# Altium schematic symbol library RC_Lib.SchLib: 89 symbols
Pins are listed as number, name and electrical type; pins without a type are passive.

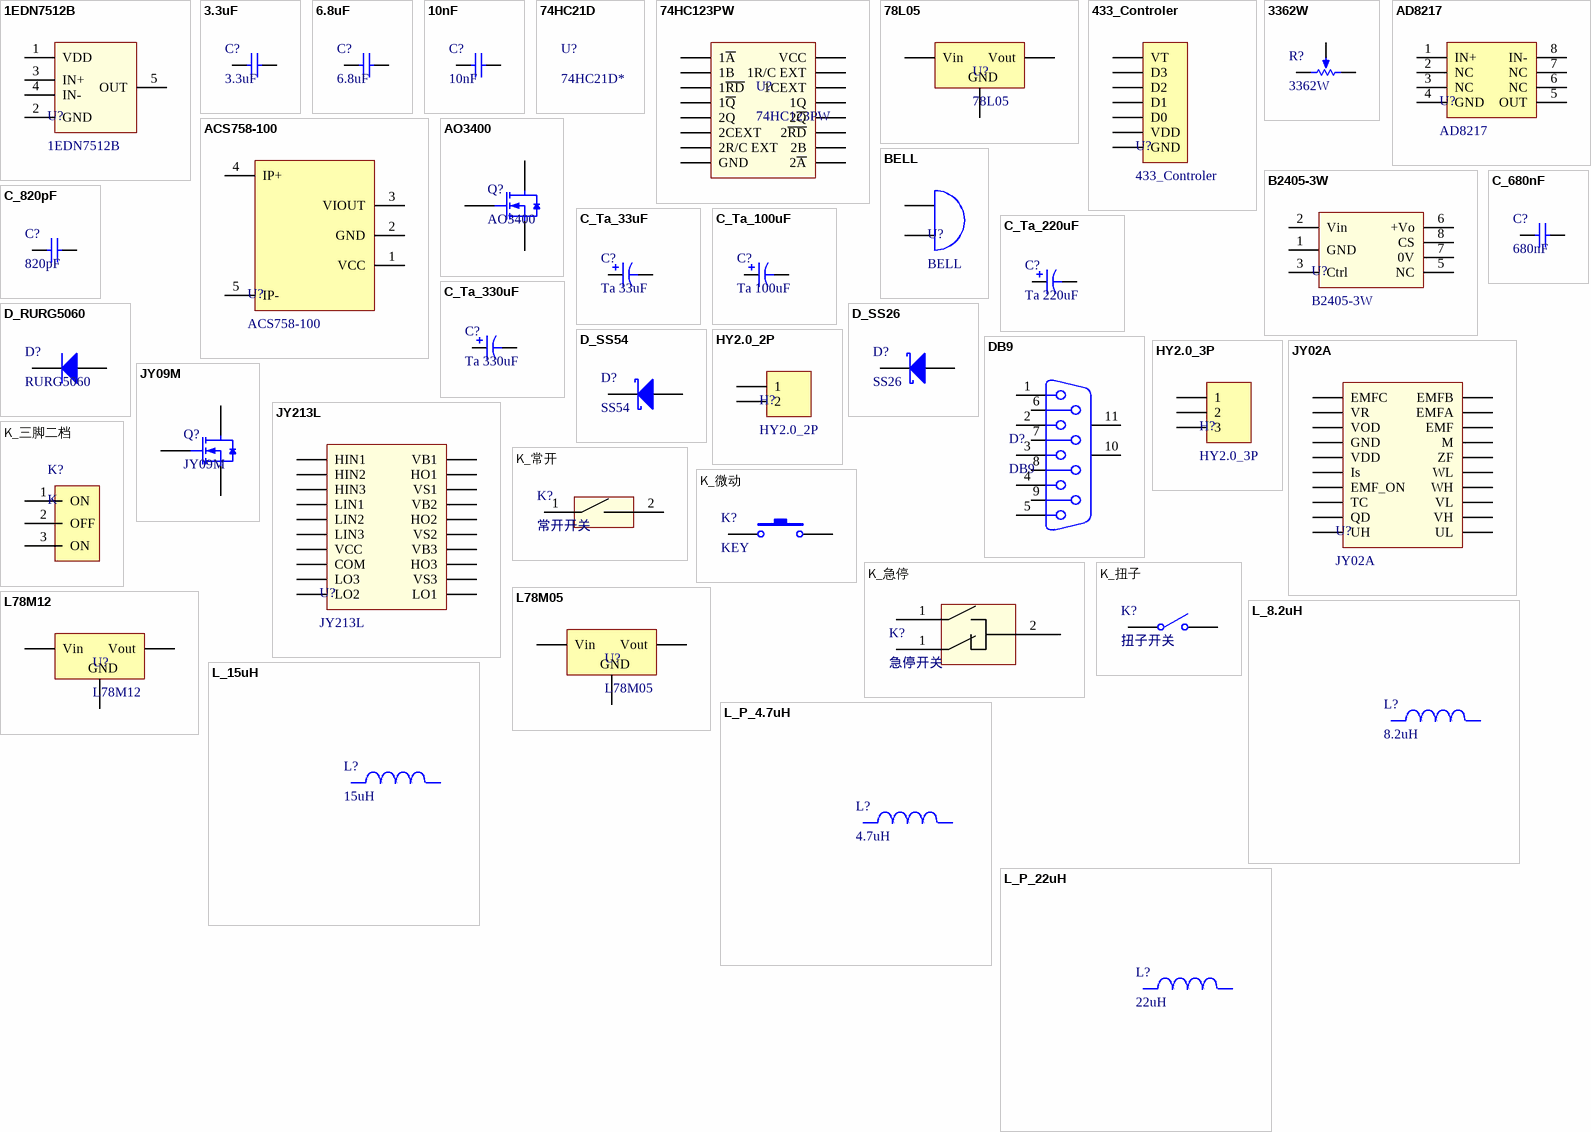
[diagram p0: symbols 1EDN7512B to L_P_22uH]

## 1EDN7512B
designator U?
MOS驱动
footprint SOT-23-5
pins: 1 VDD, 2 GND, 3 IN+, 4 IN-, 5 OUT

## 3.3uF
designator C?
贴片电容
footprint 1210_C
pins: 1, 2

## 6.8uF
designator C?
贴片电容
footprint 0805_L
pins: 1, 2

## 10nF
designator C?
贴片电容
footprint 1210_C
pins: 1, 2

## 74HC21D
designator U?, comment 74HC21D*

## 74HC123PW
designator U?
74_555
footprint TSSOP-16
pins: 1 1~{A}, 2 1B, 3 1~{RD}, 4 1~{Q}, 5 2Q, 6 2CEXT, 7 2R/C EXT, 8 GND, 9 2~{A}, 10 2B, 11 2~{RD}, 12 2~{Q}, 13 1Q, 14 1CEXT, 15 1R/C EXT, 16 VCC

## 78L05
designator U?
footprint SOT-89(SOT-89-3)
pins: 1 Vout, 2 GND, 3 Vin

## 433_Controler
designator U?
模块
footprint Controller_433
footprint CONTROLLER_433_1
pins: D0, D1, D2, D3, GND, VDD, VT

## 3362W
designator R?
footprint 3362W
pins: 1 TOP, 2 TAP, 3 BOT

## ACS758-100
designator U?
电流传感器
footprint ACS758
pins: 1 VCC, 2 GND, 3 VIOUT, 4 IP+, 5 IP-

## AD8217
designator U?
电流检测
footprint MSOP8 (Footprint not found)
pins: 1 IN+, 2 NC, 3 NC, 4 GND, 5 OUT, 6 NC, 7 NC, 8 IN-

## AO3400
designator Q?
MOS_N
footprint SOT-23(SOT-23-3)
pins: 1 G, 2 S, 3 D

## B2405-3W
designator U?
DCDC隔离
footprint B2405-3W
pins: 1 GND, 2 Vin, 3 Ctrl, 5 NC, 6 +Vo, 7 0V, 8 CS

## BELL
designator U?
footprint BELL_4mm (https://item.taobao.com/item.htm?id=539370836721)
footprint BELL_5mm
footprint BELL_12MM
pins: 1 A, 2 B

## C_680nF
designator C?, comment 680nF
footprint 0603_C
pins: 1, 2

## C_820pF
designator C?, comment 820pF
footprint 0603_C
pins: 1, 2

## C_Ta_33uF
designator C?, comment Ta 33uF
footprint TA_c
footprint Ta_DE
pins: 1, 2

## C_Ta_100uF
designator C?, comment Ta 100uF
footprint ta_c
footprint ta_de
pins: 1, 2

## C_Ta_220uF
designator C?, comment Ta 220uF
footprint ta_c
footprint ta_de
pins: 1, 2

## C_Ta_330uF
designator C?, comment Ta 330uF
footprint ta_c
footprint ta_de
pins: 1, 2

## D_RURG5060
designator D?, comment RURG5060
footprint TO247
pins: 1 A, 2 K

## D_SS26
designator D?, comment SS26
footprint SMA(DO-214AC)
pins: 1 A, 2 K

## D_SS54
designator D?, comment SS54
footprint SMB(DO-214AA)
pins: 1 A, 2 K

## DB9
designator D?
footprint DB9
pins: 1, 2, 3, 4, 5, 6, 7, 8, 9, 10 MH1, 11 MH2

## HY2.0_2P
designator H?
footprint HY2.0_L_2P
footprint HY2.0_T_2P
pins: 1, 2

## HY2.0_3P
designator H?
footprint HY2.0_L_3P
footprint HY2.0_T_3P
pins: 1, 2, 3

## JY02A
designator U?
无刷控制
footprint SSOP-20_150mil
pins: 1 EMFC, 2 VR, 3 VOD, 4 GND, 5 VDD, 6 Is, 7 EMF_ON, 8 TC, 9 QD, 10 UH, 11 UL, 12 VH, 13 VL, 14 WH, 15 WL, 16 ZF, 17 M, 18 EMF, 19 EMFA, 20 EMFB

## JY09M
designator Q?
MOS_N
footprint TO-252-2
pins: 1 G, 2 D, 3 S

## JY213L
designator U?
三相MOS驱动
footprint SSOP-20_150mil
pins: 1 HIN1, 2 HIN2, 3 HIN3, 4 LIN1, 5 LIN2, 6 LIN3, 7 VCC, 8 COM, 9 LO3, 10 LO2, 11 LO1, 12 VS3, 13 HO3, 14 VB3, 15 VS2, 16 HO2, 17 VB2, 18 VS1, 19 HO1, 20 VB1

## K_三脚二档
designator K?, comment K
footprint K_三脚二档
pins: 1 ON, 2 OFF, 3 ON

## K_常开
designator K?, comment 常开开关
footprint HDR1X2 (Connector; Header; 2 Position)
pins: 1, 2

## K_微动
designator K?, comment KEY
footprint KEY_四脚直插
footprint KEY_轻触开关 (3*6*2.5MM)
footprint KEY_轻触开关_卧式
pins: 1, 2

## K_急停
designator K?, comment 急停开关
footprint HDR1X2 (Connector; Header; 2 Position)
pins: 1, 1, 2

## K_扭子
designator K?, comment 扭子开关
footprint 扭子开关_卧式
pins: 1 COMMON, 2 NO

## L78M05
designator U?
footprint DPAK
pins: 1 Vin, 2 GND, 3 Vout

## L78M12
designator U?
footprint DPAK
pins: 1 Vin, 2 GND, 3 Vout

## L_8.2uH
designator L?, comment 8.2uH
footprint 1770
pins: 1, 2

## L_15uH
designator L?, comment 15uH
footprint 1260
pins: 1, 2

## L_P_4.7uH
designator L?, comment 4.7uH
功率电感
footprint WHC1265
pins: 1, 2

## L_P_22uH
designator L?, comment 22uH
功率电感
footprint 7*7
pins: 1, 2

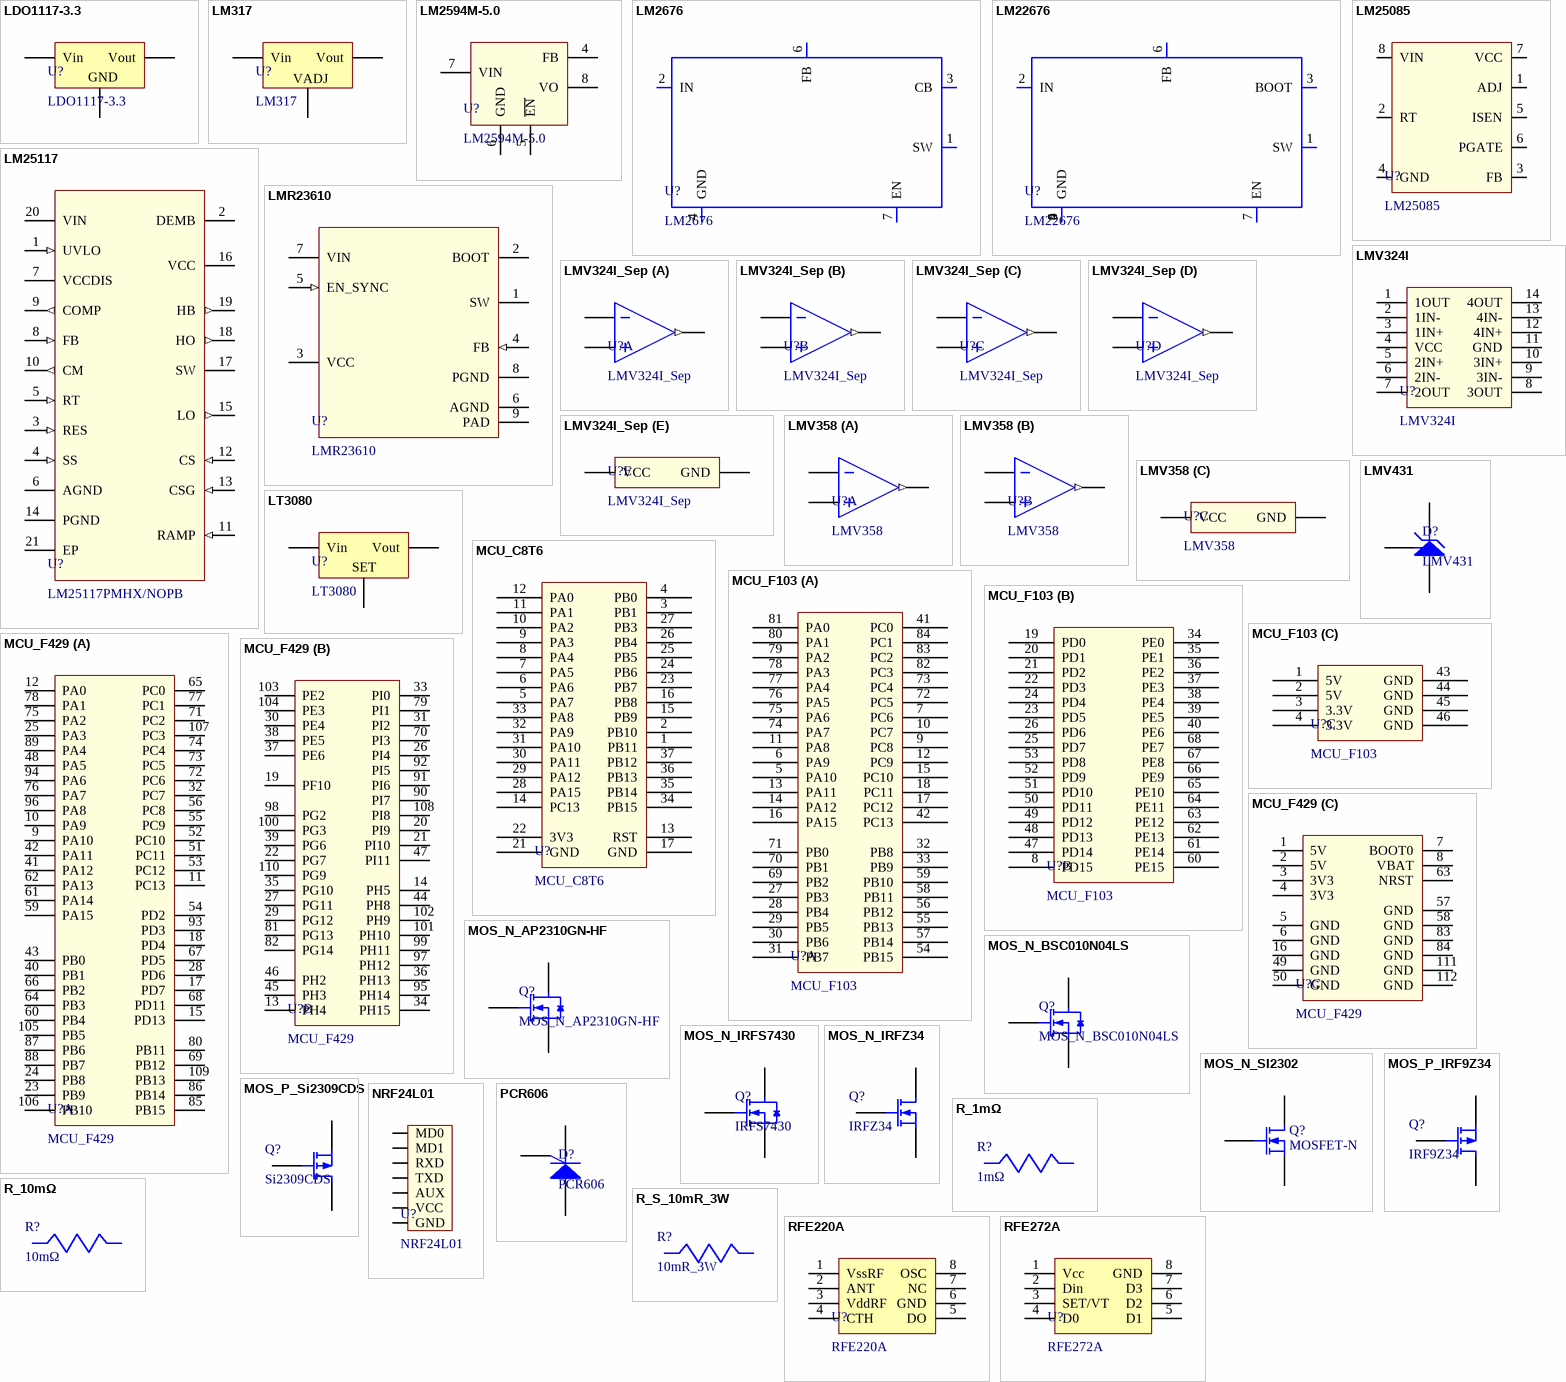
[diagram p1: symbols LDO1117-3.3 to RFE272A]

## LDO1117-3.3
designator U?
footprint SOT223
pins: 1 GND, 2 Vout, 3 Vin

## LM317
designator U?
footprint SOT-223
pins: 1 VADJ, 2 Vout, 3 Vin

## LM2594M-5.0
designator U?
pins: 1 GND, 2 GND, 3 GND, 4 FB, 5 ~{EN}, 6 GND, 7 VIN, 8 VO

## LM2676
designator U?
footprint TO-263-7
pins: 0 TAB, 1 SW, 2 IN, 3 CB, 4 GND, 5 NC, 6 FB, 7 EN

## LM22676
designator U?
footprint TO-263-7
pins: 0 TAB, 1 SW, 2 IN, 3 BOOT, 4 GND, 5 NC, 6 FB, 7 EN

## LM25085
designator U?
footprint MSOP8
pins: 1 ADJ, 2 RT, 3 FB, 4 GND, 5 ISEN, 6 PGATE, 7 VCC, 8 VIN, 9 EP

## LM25117
designator U?, comment LM25117PMHX/NOPB
footprint TSSOP-20
pins: 1 UVLO (in), 2 DEMB, 3 RES (in), 4 SS (in), 5 RT (in), 6 AGND (power), 7 VCCDIS, 8 FB (in), 9 COMP (out), 10 CM (out), 11 RAMP (in), 12 CS (in), 13 CSG (in), 14 PGND (power), 15 LO (out), 16 VCC (power), 17 SW (power), 18 HO (out), 19 HB (out), 20 VIN (power), 21 EP

## LMR23610
designator U?
footprint SOP8 (SOP, 8-Leads, Body 4.90x3.90mm, Pitch 1.27mm, IPC Medium Density)
pins: 1 SW (power), 2 BOOT (power), 3 VCC (power), 4 FB (in), 5 EN_SYNC (in), 6 AGND (power), 7 VIN (power), 8 PGND (power), 9 PAD (power)

## LMV324I
designator U?
footprint SOP14 (SOP, 14-Leads, Body 8.70x4.40mm, Pitch 1.27mm, IPC Medium Density)
pins: 1 1OUT, 2 1IN-, 3 1IN+, 4 VCC, 5 2IN+, 6 2IN-, 7 2OUT, 8 3OUT, 9 3IN-, 10 3IN+, 11 GND, 12 4IN+, 13 4IN-, 14 4OUT

## LMV324I_Sep
designator U?
footprint SOP14 (SOP, 14-Leads, Body 8.70x4.40mm, Pitch 1.27mm, IPC Medium Density)
part A pins: 1 1OUT (out), 2 IN-, 3 IN+
part B pins: 5 IN+, 6 IN-, 7 OUT (out)
part C pins: 8 OUT (out), 9 IN-, 10 IN+
part D pins: 12 IN+, 13 IN-, 14 OUT (out)
part E pins: 4 VCC, 11 GND

## LMV358
designator U?
footprint SOP8 (SOP, 8-Leads, Body 4.90x3.90mm, Pitch 1.27mm, IPC Medium Density)
part A pins: 1 1OUT (out), 2 1IN-, 3 1IN+
part B pins: 5 2IN+, 6 2IN-, 7 2OUT (out)
part C pins: 4 GND, 8 VCC

## LMV431
designator D?
footprint SOT-23-5
pins: 3 C, 4 R, 5 A

## LT3080
designator U?
footprint SOT223
pins: 1 SET, 2 Vout, 3 Vin

## MCU_C8T6
designator U?
footprint MCU_C8T6
pins: 1 PB11, 2 PB10, 3 PB1, 4 PB0, 5 PA7, 6 PA6, 7 PA5, 8 PA4, 9 PA3, 10 PA2, 11 PA1, 12 PA0, 13 RST, 14 PC13, 15 PB9, 16 PB8, 17 GND, 21 GND, 22 3V3, 23 PB7, 24 PB6, 25 PB5, 26 PB4, 27 PB3, 28 PA15, 29 PA12, 30 PA11, 31 PA10, 32 PA9, 33 PA8, 34 PB15, 35 PB14, 36 PB13, 37 PB12

## MCU_F103
designator U?
footprint MCU_F103
part A pins: 5 PA10, 6 PA9, 7 PC6, 9 PC8, 10 PC7, 11 PA8, 12 PC9, 13 PA11, 14 PA12, 15 PC10, 16 PA15, 17 PC12, 18 PC11, 27 PB3, 28 PB4, 29 PB5, 30 PB6, 31 PB7, 32 PB8, 33 PB9, 41 PC0, 42 PC13, 54 PB15, 55 PB13, 56 PB12, 57 PB14, 58 PB11, 59 PB10, 69 PB2, 70 PB1, 71 PB0, 72 PC5, 73 PC4, 74 PA7, 75 PA6, 76 PA5, 77 PA4, 78 PA3, 79 PA2, 80 PA1, 81 PA0, 82 PC3, 83 PC2, 84 PC1
part B pins: 8 PD15, 19 PD0, 20 PD1, 21 PD2, 22 PD3, 23 PD5, 24 PD4, 25 PD7, 26 PD6, 34 PE0, 35 PE1, 36 PE2, 37 PE3, 38 PE4, 39 PE5, 40 PE6, 47 PD14, 48 PD13, 49 PD12, 50 PD11, 51 PD10, 52 PD9, 53 PD8, 60 PE15, 61 PE14, 62 PE13, 63 PE12, 64 PE11, 65 PE10, 66 PE9, 67 PE8, 68 PE7
part C pins: 1 5V, 2 5V, 3 3.3V, 4 3.3V, 43 GND, 44 GND, 45 GND, 46 GND

## MCU_F429
designator U?
footprint MCU_F429
part A pins: 9 PA10, 10 PA9, 11 PC13, 12 PA0, 15 PD13, 17 PD7, 18 PD4, 23 PB9, 24 PB8, 25 PA3, 28 PD6, 32 PC7, 40 PB1, 41 PA12, 42 PA11, 43 PB0, 48 PA5, 51 PC11, 52 PC10, 53 PC12, 54 PD2, 55 PC9, 56 PC8, 59 PA15, 60 PB4, 61 PA14, 62 PA13, 64 PB3, 65 PC0, 66 PB2, 67 PD5, 68 PD11, 69 PB12, 71 PC2, 72 PC6, 73 PC5, 74 PC4, 75 PA2, 76 PA7, 77 PC1, 78 PA1, 80 PB11, 85 PB15, 86 PB14, 87 PB6, 88 PB7, 89 PA4, 93 PD3, 94 PA6, 96 PA8, 105 PB5, 106 PB10, 107 PC3, 109 PB13
part B pins: 13 PH4, 14 PH5, 19 PF10, 20 PI9, 21 PI10, 22 PG7, 26 PI4, 27 PG11, 29 PG12, 30 PE4, 31 PI2, 33 PI0, 34 PH15, 35 PG10, 36 PH13, 37 PE6, 38 PE5, 39 PG6, 44 PH8, 45 PH3, 46 PH2, 47 PI11, 70 PI3, 79 PI1, 81 PG13, 82 PG14, 90 PI7, 91 PI6, 92 PI5, 95 PH14, 97 PH12, 98 PG2, 99 PH11, 100 PG3, 101 PH10, 102 PH9, 103 PE2, 104 PE3, 108 PI8, 110 PG9
part C pins: 1 5V, 2 5V, 3 3V3, 4 3V3, 5 GND, 6 GND, 7 BOOT0, 8 VBAT, 16 GND, 49 GND, 50 GND, 57 GND, 58 GND, 63 NRST, 83 GND, 84 GND, 111 GND, 112 GND

## MOS_N_AP2310GN-HF
designator Q?
footprint SOT-23(SOT-23-3)
pins: 1 G, 2 S, 3 D

## MOS_N_BSC010N04LS
designator Q?
pins: D, G, S

## MOS_N_IRFS7430
designator Q?, comment IRFS7430
footprint DPAK2-7P (D2-PAK, 8-Pads, Body 7.90x8.70mm (max), IPC Medium Density)
pins: 1 G, 2 S, 3 S, 5 S, 6 S, 7 S, 8 D

## MOS_N_IRFZ34
designator Q?, comment IRFZ34
footprint TO220
pins: D, G, S

## MOS_N_SI2302
designator Q?, comment MOSFET-N
N-Channel MOSFET; Published: 8-Jun-2000; LatestRevisionDate: 17-Jul-2002; LatestRevisionNote: Re-released for DXP Platform.; PackageVersion: 1995/1996; PackageReference: E3; Publisher: Altium Limited
footprint SOT-23(SOT-23-3)
pins: 1 D, 2 G, 3 S

## MOS_P_IRF9Z34
designator Q?, comment IRF9Z34
footprint TO220
pins: D, G, S

## MOS_P_Si2309CDS
designator Q?, comment Si2309CDS
footprint SOT-23(SOT-23-3)
pins: 1 G, 2 S, 3 D

## NRF24L01
designator U?
footprint HDR1X7 (Connector; Header; 7 Position)
pins: 1 MD0, 2 MD1, 3 RXD, 4 TXD, 5 AUX, 6 VCC, 7 GND

## PCR606
designator D?
footprint SOT-23(SOT-23-3)
pins: 1 C, 2 A, 3 G

## R_1mΩ
designator R?, comment 1mΩ
footprint 2512
pins: 1, 2

## R_10mΩ
designator R?, comment 10mΩ
footprint 2512
pins: 1, 2

## R_S_10mR_3W
designator R?, comment 10mR_3W
采样电阻
footprint 2512
pins: 1, 2

## RFE220A
designator U?
footprint SOP8 (SOP, 8-Leads, Body 4.90x3.90mm, Pitch 1.27mm, IPC Medium Density)
pins: 1 VssRF, 2 ANT, 3 VddRF, 4 CTH, 5 DO, 6 GND, 7 NC, 8 OSC

## RFE272A
designator U?
footprint SOP8 (SOP, 8-Leads, Body 4.90x3.90mm, Pitch 1.27mm, IPC Medium Density)
pins: 1 Vcc, 2 Din, 3 SET/VT, 4 D0, 5 D1, 6 D2, 7 D3, 8 GND

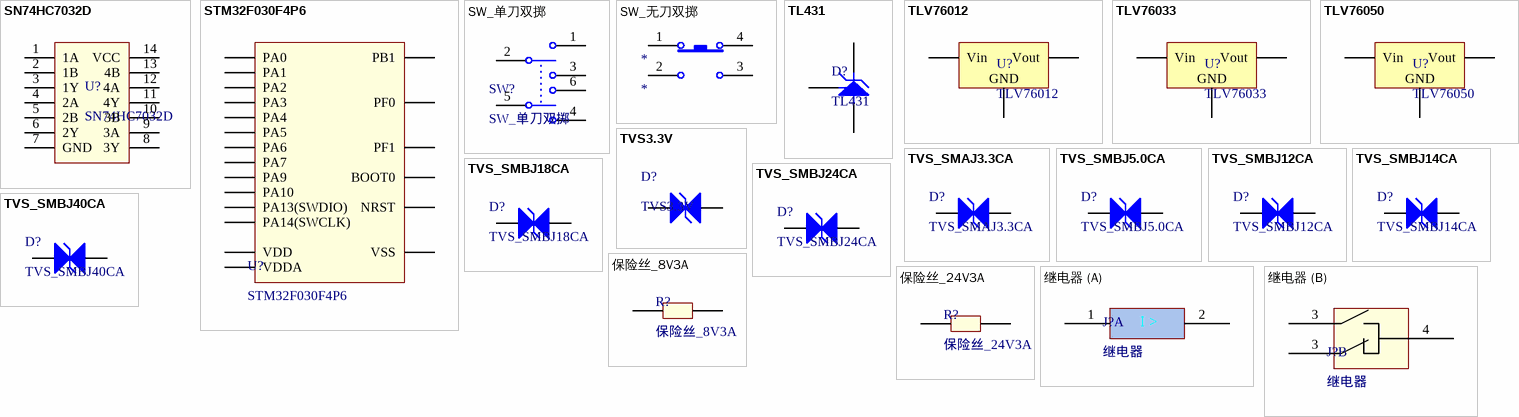
[diagram p2: symbols SN74HC7032D to 继电器]

## SN74HC7032D
designator U?
footprint SOIC-14_150mil
pins: 1 1A, 2 1B, 3 1Y, 4 2A, 5 2B, 6 2Y, 7 GND, 8 3Y, 9 3A, 10 3B, 11 4Y, 12 4A, 13 4B, 14 VCC

## STM32F030F4P6
designator U?
footprint TSSOP-20
pins: 1 BOOT0, 2 PF0, 3 PF1, 4 NRST, 5 VDDA, 6 PA0, 7 PA1, 8 PA2, 9 PA3, 10 PA4, 11 PA5, 12 PA6, 13 PA7, 14 PB1, 15 VSS, 16 VDD, 17 PA9, 18 PA10, 19 PA13(SWDIO), 20 PA14(SWCLK)

## SW_单刀双掷
designator SW?
footprint SW_8.5自锁
footprint SW_拨动开关
pins: 1, 2, 3, 4, 5, 6

## SW_无刀双掷
designator *
footprint SW_5.8自锁贴片_卧式
pins: 1, 2, 3, 4

## TL431
designator D?
footprint SOT-89(SOT-89-3)
pins: 1 R, 2 A, 3 C

## TLV76012
designator U?
footprint SOT-23(SOT-23-3)
pins: 1 Vout, 2 Vin, 3 GND

## TLV76033
designator U?
pins: 1 Vout, 2 Vin, 3 GND

## TLV76050
designator U?
pins: 1 Vout, 2 Vin, 3 GND

## TVS3.3V
designator D?
footprint SOD-323
pins: 1 A, 2 K

## TVS_SMAJ3.3CA
designator D?
双向
footprint SMA(DO-214AC)_S1
pins: 1 A, 2 K

## TVS_SMBJ5.0CA
designator D?
双向
footprint SMB(DO-214AA)_S1
pins: 1 A, 2 K

## TVS_SMBJ12CA
designator D?
双向
footprint SMB(DO-214AA)_S1
pins: 1 A, 2 K

## TVS_SMBJ14CA
designator D?
双向
footprint SMB(DO-214AA)_S1
pins: 1 A, 2 K

## TVS_SMBJ18CA
designator D?
双向
footprint SMB(DO-214AA)_S1
pins: 1 A, 2 K

## TVS_SMBJ24CA
designator D?
双向
footprint SMB(DO-214AA)_S1
pins: 1 A, 2 K

## TVS_SMBJ40CA
designator D?
双向
footprint SMB(DO-214AA)_S1
pins: 1 A, 2 K

## 保险丝_8V3A
designator R?
footprint 1812
pins: 1, 2

## 保险丝_24V3A
designator R?
footprint 2920
pins: 1, 2

## 继电器
designator J?
footprint 继电器_大
footprint 继电器_小
part A pins: 1, 2
part B pins: 3, 3, 4
part A text: I >